# Altium schematic symbol library Phonejack.SchLib: 1 symbol
Pins are listed as number, name and electrical type; pins without a type are passive.

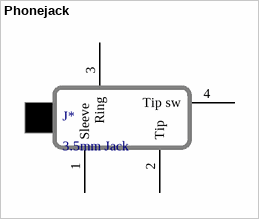
[diagram p0: symbol Phonejack]

## Phonejack
designator J*, comment 3.5mm Jack
footprint Phonejack (3.5mm phone jack)
pins: 1 Sleeve, 2 Tip, 3 Ring, 4 Tip sw